# EAGLE library part ECE477_PARTS_LIBRARY_MSP430FR69891 (library ECE477_parts_library)
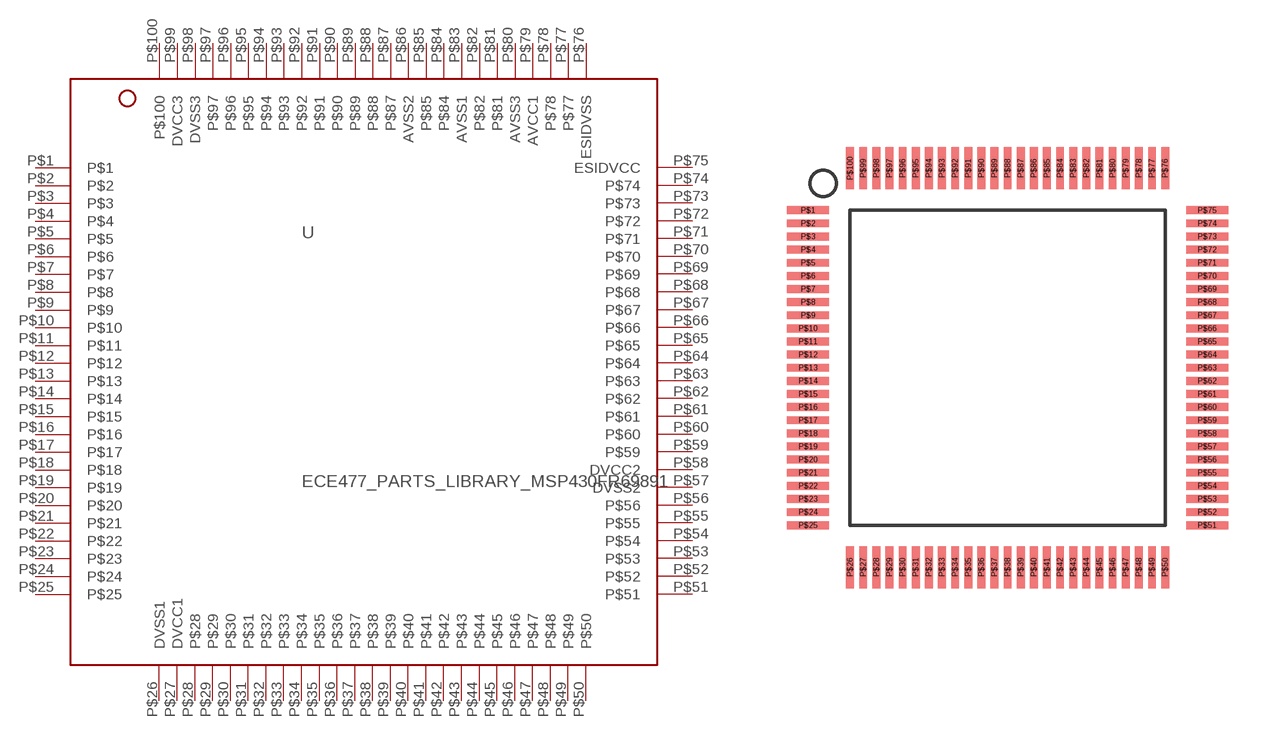
[diagram p2: symbol with the pads of ECE477_PARTS_LIBRARY_MSP430FR69891; footprint ECE477_PARTS_LIBRARY_MSP430FR69891]

Designator prefix -

## ECE477_PARTS_LIBRARY_MSP430FR69891LQFP100PIN  [ECE477_PARTS_LIBRARY_MSP430FR69891]
P$1  P$1
P$2  P$2
P$3  P$3
P$4  P$4
P$5  P$5
P$6  P$6
P$7  P$7
P$8  P$8
P$9  P$9
P$10  P$10
P$11  P$11
P$12  P$12
P$13  P$13
P$14  P$14
P$15  P$15
P$16  P$16
P$17  P$17
P$18  P$18
P$19  P$19
P$20  P$20
P$21  P$21
P$22  P$22
P$23  P$23
P$24  P$24
P$25  P$25
P$26  DVSS1
P$27  DVCC1
P$28  P$28
P$29  P$29
P$30  P$30
P$31  P$31
P$32  P$32
P$33  P$33
P$34  P$34
P$35  P$35
P$36  P$36
P$37  P$37
P$38  P$38
P$39  P$39
P$40  P$40
P$41  P$41
P$42  P$42
P$43  P$43
P$44  P$44
P$45  P$45
P$46  P$46
P$47  P$47
P$48  P$48
P$49  P$49
P$50  P$50
P$51  P$51
P$52  P$52
P$53  P$53
P$54  P$54
P$55  P$55
P$56  P$56
P$57  DVSS2
P$58  DVCC2
P$59  P$59
P$60  P$60
P$61  P$61
P$62  P$62
P$63  P$63
P$64  P$64
P$65  P$65
P$66  P$66
P$67  P$67
P$68  P$68
P$69  P$69
P$70  P$70
P$71  P$71
P$72  P$72
P$73  P$73
P$74  P$74
P$75  ESIDVCC
P$76  ESIDVSS
P$77  P$77
P$78  P$78
P$79  AVCC1
P$80  AVSS3
P$81  P$81
P$82  P$82
P$83  AVSS1
P$84  P$84
P$85  P$85
P$86  AVSS2
P$87  P$87
P$88  P$88
P$89  P$89
P$90  P$90
P$91  P$91
P$92  P$92
P$93  P$93
P$94  P$94
P$95  P$95
P$96  P$96
P$97  P$97
P$98  DVSS3
P$99  DVCC3
P$100  P$100

## Footprint ECE477_PARTS_LIBRARY_MSP430FR69891 (pad centres in mm)
smd 1.6 x 0.3: P$1 0,0; P$2 0,-0.5; P$3 0,-1; P$4 0,-1.5; P$5 0,-2; P$6 0,-2.5; P$7 0,-3; P$8 0,-3.5; P$9 0,-4; P$10 0,-4.5; P$11 0,-5; P$12 0,-5.5; P$13 0,-6; P$14 0,-6.5; P$15 0,-7; P$16 0,-7.5; P$17 0,-8; P$18 0,-8.5; P$19 0,-9; P$20 0,-9.5; P$21 0,-10; P$22 0,-10.5; P$23 0,-11; P$24 0,-11.5; P$25 0,-12; P$51 15.2,-12; P$52 15.2,-11.5; P$53 15.2,-11; P$54 15.2,-10.5; P$55 15.2,-10; P$56 15.2,-9.5; P$57 15.2,-9; P$58 15.2,-8.5; P$59 15.2,-8; P$60 15.2,-7.5; P$61 15.2,-7; P$62 15.2,-6.5; P$63 15.2,-6; P$64 15.2,-5.5; P$65 15.2,-5; P$66 15.2,-4.5; P$67 15.2,-4; P$68 15.2,-3.5; P$69 15.2,-3; P$70 15.2,-2.5; P$71 15.2,-2; P$72 15.2,-1.5; P$73 15.2,-1; P$74 15.2,-0.5; P$75 15.2,0
smd 0.3 x 1.6: P$26 1.6,-13.6; P$27 2.1,-13.6; P$28 2.6,-13.6; P$29 3.1,-13.6; P$30 3.6,-13.6; P$31 4.1,-13.6; P$32 4.6,-13.6; P$33 5.1,-13.6; P$34 5.6,-13.6; P$35 6.1,-13.6; P$36 6.6,-13.6; P$37 7.1,-13.6; P$38 7.6,-13.6; P$39 8.1,-13.6; P$40 8.6,-13.6; P$41 9.1,-13.6; P$42 9.6,-13.6; P$43 10.1,-13.6; P$44 10.6,-13.6; P$45 11.1,-13.6; P$46 11.6,-13.6; P$47 12.1,-13.6; P$48 12.6,-13.6; P$49 13.1,-13.6; P$50 13.6,-13.6; P$76 13.6,1.6; P$77 13.1,1.6; P$78 12.6,1.6; P$79 12.1,1.6; P$80 11.6,1.6; P$81 11.1,1.6; P$82 10.6,1.6; P$83 10.1,1.6; P$84 9.6,1.6; P$85 9.1,1.6; P$86 8.6,1.6; P$87 8.1,1.6; P$88 7.6,1.6; P$89 7.1,1.6; P$90 6.6,1.6; P$91 6.1,1.6; P$92 5.6,1.6; P$93 5.1,1.6; P$94 4.6,1.6; P$95 4.1,1.6; P$96 3.6,1.6; P$97 3.1,1.6; P$98 2.6,1.6; P$99 2.1,1.6; P$100 1.6,1.6